# Altium schematic symbol library Schlib1.SchLib: 4 symbols
Pins are listed as number, name and electrical type; pins without a type are passive.

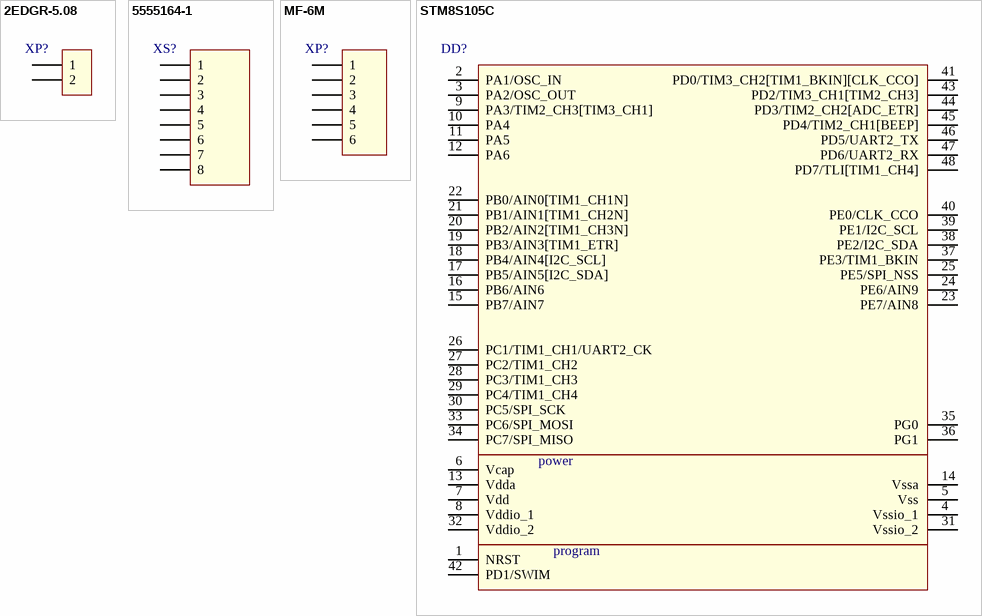
[diagram p0: symbols 2EDGR-5.08 to STM8S105C]

## 2EDGR-5.08
designator XP?  (value not drawn)
footprint 2EDGR-5.08
pins: 1, 2

## 5555164-1
designator XS?  (value not drawn)
PCB Mounted Jacks - Single Port, Multi-port and Stacked
footprint RJ45 8pin
pins: 1, 2, 3, 4, 5, 6, 7, 8

## MF-6M
designator XP?  (value not drawn)
Mini-Fit 6 pin Connector on board.
footprint MF-6M
pins: 1, 2, 3, 4, 5, 6

## STM8S105C
designator DD?, comment STM8S105Cx  (value not drawn)
Access line, 16 MHz STM8S 8-bit MCU
footprint LQFP48_N (Thin QFP, 48-Leads, Body 7x7mm, Pitch 0.5mm, IPC Medium Density)
pins: 1 NRST, 2 PA1/OSC_IN, 3 PA2/OSC_OUT, 4 Vssio_1, 5 Vss, 6 Vcap, 7 Vdd, 8 Vddio_1, 9 PA3/TIM2_CH3[TIM3_CH1], 10 PA4, 11 PA5, 12 PA6, 13 Vdda, 14 Vssa, 15 PB7/AIN7, 16 PB6/AIN6, 17 PB5/AIN5[I2C_SDA], 18 PB4/AIN4[I2C_SCL], 19 PB3/AIN3[TIM1_ETR], 20 PB2/AIN2[TIM1_CH3N], 21 PB1/AIN1[TIM1_CH2N], 22 PB0/AIN0[TIM1_CH1N], 23 PE7/AIN8, 24 PE6/AIN9, 25 PE5/SPI_NSS, 26 PC1/TIM1_CH1/UART2_CK, 27 PC2/TIM1_CH2, 28 PC3/TIM1_CH3, 29 PC4/TIM1_CH4, 30 PC5/SPI_SCK, 31 Vssio_2, 32 Vddio_2, 33 PC6/SPI_MOSI, 34 PC7/SPI_MISO, 35 PG0, 36 PG1, 37 PE3/TIM1_BKIN, 38 PE2/I2C_SDA, 39 PE1/I2C_SCL, 40 PE0/CLK_CCO, 41 PD0/TIM3_CH2[TIM1_BKIN][CLK_CCO], 42 PD1/SWIM, 43 PD2/TIM3_CH1[TIM2_CH3], 44 PD3/TIM2_CH2[ADC_ETR], 45 PD4/TIM2_CH1[BEEP], 46 PD5/UART2_TX, 47 PD6/UART2_RX, 48 PD7/TLI[TIM1_CH4]
text: power; program